# EAGLE library part TMP006AIYZF (library texas-boosterpack)
TMP006AIYZF This sensor uses a thermopile to absorb the infrared energy emitted from the object being measured and uses the corresponding change in thermopile voltage to determine the object temperature>/p>
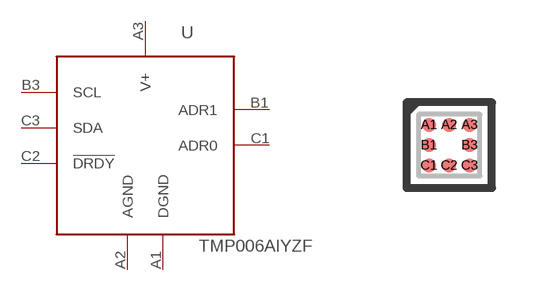
[diagram p1: symbol with the pads of YZF_S-XBGA-N8; footprint YZF_S-XBGA-N8]

Designator prefix U

## TMP006AIYZF  [YZF_S-XBGA-N8]
A1  DGND  pwr
A2  AGND  pwr
A3  V+  pwr
B1  ADR1  in
B3  SCL  in
C1  ADR0  in
C2  !DRDY  out
C3  SDA

## Footprint YZF_S-XBGA-N8 (pad centres in mm)
smd 0.356 x 0.356: A1 -0.508,0.508; A2 0,0.508; A3 0.508,0.508; B1 -0.508,0; B3 0.508,0; C1 -0.508,-0.508; C2 0,-0.508; C3 0.508,-0.508